# EAGLE library part SLA707*M (library allegro)
UNIPOLAR STEPPER-MOTOR TRANSLATOR/DRIVERS Output current: SLA7070M = 1.0 A, SLA7071M = 1.5 A, SLA7072M = 2.0 A, SLA7073M = 3.0 A Source: 2821003.pdf / 970701.pdf http://www.allegromicro.com/en/Products/Part_Numbers/970701/970702.pdf
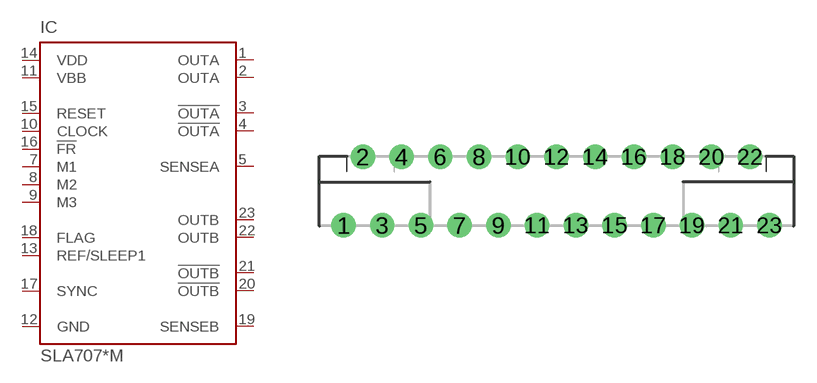
[diagram p1: symbol with the pads of ZIP23-SLA; footprint ZIP23-SLA]

Designator prefix IC

## SLA7070M (MPN: SLA7070MR; OC_FARNELL: unknown; OC_NEWARK: 87K4943), SLA7071M (MPN: SLA7071MR; OC_FARNELL: unknown; OC_NEWARK: 87K4945), SLA7072M (MPN: SLA7072MR; OC_FARNELL: unknown; OC_NEWARK: 87K4947), SLA7073M (MPN: SLA7073MR; OC_FARNELL: unknown; OC_NEWARK: 87K4949), SLA7075M (MPN: SLA7075MR; OC_FARNELL: unknown; OC_NEWARK: 87K4951), SLA7076M (MPN: SLA7076MR; OC_FARNELL: unknown; OC_NEWARK: 87K4953), SLA7077M (MPN: SLA7077MR; OC_FARNELL: unknown; OC_NEWARK: 87K4955), SLA7078M (MPN: SLA7078MR; OC_FARNELL: unknown; OC_NEWARK: 87K4957)  [ZIP23-SLA]
1  OUTA  out
2  OUTA  out
3  !OUTA  out
4  !OUTA  out
5  SENSEA  in
6  NC  nc
7  M1  in
8  M2  in
9  M3  in
10  CLOCK  in
11  VBB  pwr
12  GND  pwr
13  REF/SLEEP1  pwr
14  VDD  pwr
15  RESET  in
16  !FR  in
17  SYNC  in
18  FLAG  in
19  SENSEB  in
20  !OUTB  out
21  !OUTB  out
22  OUTB  out
23  OUTB  out

## Footprint ZIP23-SLA (pad centres in mm)
Small molded power package ZIP-type 23-pin SLA package Source: 2821003.pdf
drill 0.8 pad 1.6: 1 -13.97,-2.25; 2 -12.7,2.25; 3 -11.43,-2.25; 4 -10.16,2.25; 5 -8.89,-2.25; 6 -7.62,2.25; 7 -6.35,-2.25; 8 -5.08,2.25; 9 -3.81,-2.25; 10 -2.54,2.25; 11 -1.27,-2.25; 12 0,2.25; 13 1.27,-2.25; 14 2.54,2.25; 15 3.81,-2.25; 16 5.08,2.25; 17 6.35,-2.25; 18 7.62,2.25; 19 8.89,-2.25; 20 10.16,2.25; 21 11.43,-2.25; 22 12.7,2.25; 23 13.97,-2.25